# Altium schematic symbol library SSTU V3.0.SCHLIB: 33 symbols
Pins are listed as number, name and electrical type; pins without a type are passive.

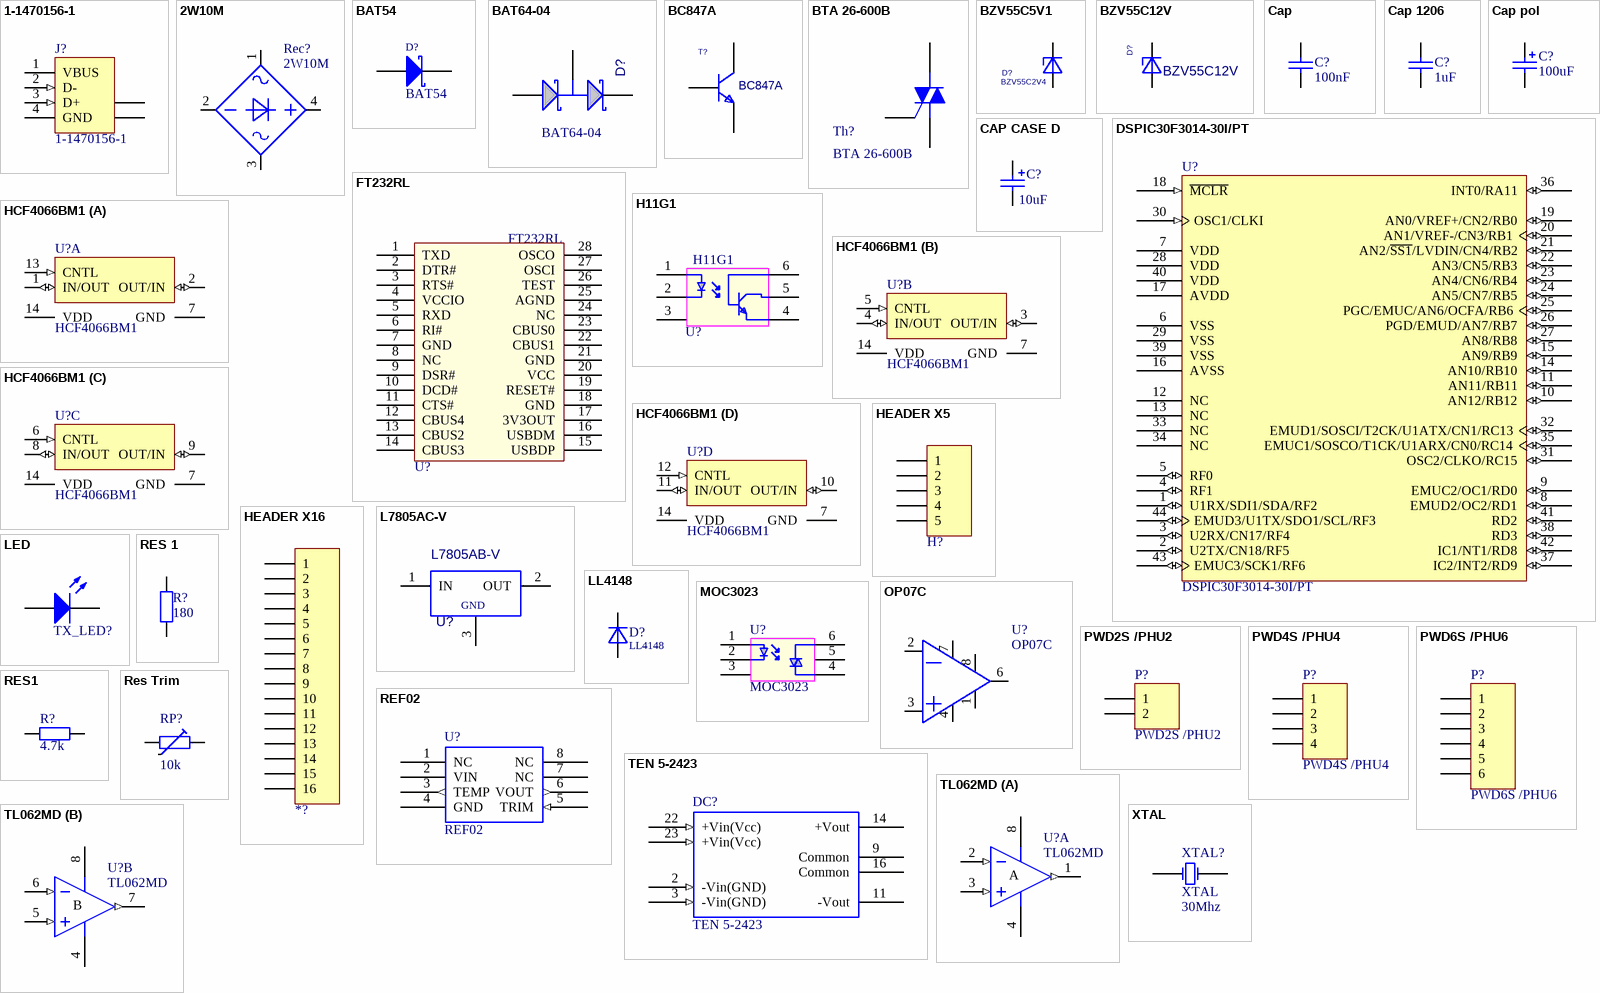
[diagram p0: symbols 1-1470156-1 to XTAL]

## 1-1470156-1
designator J?
USB 1.1, Right Angle, Thru-Hole, B Type, Receptacle, 4 Position, White; ContactMaterial: Phosphor Bronze; ContactPlating: Gold over Nickel; TerminationLength: 3.00mm [0.118in.]; PCB_Layout: Complies with manufacturer's recommendation.; DrillSize: Corresponds to nominal value.; PanelGround: Without; Published: 15-Jul-2004; DatasheetDocument: 02-Jun-2001; PackageDocument: 02-Jun-2001; PackageReference: 1-1470156; Publisher: Altium Limited; HousingMaterial: Glass-Filled Thermoplastic; ComponentLink1Description: Manufacturer Link; ComponentLink1URL: http://www.tycoelectronics.com/; ComponentLink2Description: Packaging Specification; ComponentLink2URL: http://ecommas.tycoelectronics.com/commerce/DocumentDelivery/DDEController?Action=showdoc&DocId=Customer+Drawing%7F1470156%7FO%7Ftif%7FEnglish%7FC_1470156_O.tif
footprint USB2.5-2H4D (Connector; USB1.1, Type B, Thru-Hole; 4 Position; Right Angle)
signal-integrity model USB1.1
pins: 1 VBUS (power) "Power", 2 D- (in) "-DATA", 3 D+ (in) "+DATA", 4 GND (power) "Ground", 5 SHLD "Shield", 6 SHLD "Shield"

## 2W10M
designator Rec?
Description: Rectifier; Value: 2W10M
footprint WOB_2WXX[X]M
pins: 1 AC1, 2 -, 3 AC2, 4 +

## BAT54
designator D?
Value: BAT54
footprint SOT23 (SOT-23; 3 Leads; Body 3.0 x 2.6 mm, inc. leads (LxW max))
pins: 1 A, 3 K

## BAT64-04
designator D?
Silicon Schottky Diodes; Manufacturer: INF; ComponentLink1DescBC: Manufacturer Link; Group: Discrete; Subgroup: Diode; Published: 21-Mar-2003; DatasheetDocument: Oct-1999; PackageDocument: Sep-2001; PackageReference: SOT-23; Publisher: Altium Limited; ComponentLink1URL: http://www.infineon.com/; Value: BAT64-04
footprint SOT23_HIS_Primary
footprint SOT23_HIS_SOT23B
pins: 1 A, 2 K, 3 C

## BC847A
designator T?
NPN General Purpose Amplifier; OriginalName: BC847ALT1; ComponentField7: Published 29-Sep-2000; Group: Discrete; Subgroup: Transistor; Subgroup1: NPN General Purpose; Package: SOT23; Mounting: SMD; Value: BC847A
footprint SOT23_HIS_Primary
pins: 1 B, 2 E, 3 C

## BTA 26-600B
designator Th?
Value: BTA 26-600B
footprint TO247
pins: 1, 2, 3

## BZV55C5V1
designator D?  value BZV55C2V4  (hidden comment: BZV55C5V1)
Voltage regulator diode; Manufacturer: Any; Group: Discrete; Subgroup1: Zener; Subgroup: Diode; Package: SOD80C; Mounting: SMD
footprint D_MINIMELF_BZV55C5V1(Primary)
pins: A, K

## BZV55C12V
designator D?
Value: BZV55C12V
footprint D_MINIMELF_BZV55C12V(Primary)
pins: A, K

## Cap
designator C?  value 100nF  (hidden comment: Cap)
footprint 3216[1206] (Chip Resistor; Body 3.2 x 1.6 mm (LxW typ))
pins: 1, 2

## Cap 1206
designator C?  value 1uF  (hidden comment: Cap 1206)
footprint 3216[1206] (Chip Resistor; Body 3.2 x 1.6 mm (LxW typ))
pins: 1, 2

## CAP CASE D
designator C?  value 10uF  (hidden comment: CAP CASE D)
footprint 3216[1206]
pins: 1, 2

## Cap pol
designator C?, comment value 100uF  (hidden comment: Cap)
footprint CAPPR5-12.5x20 (Capacitor, Electrolytic, Radial; Body 12.5 x 20 mm (Dia.xH typ); Pin Spacing 5 mm (typ))
footprint CAPPR7.5-18x35.5 (Capacitor, Electrolytic, Radial; Body 18 x 35.5 mm (Dia.xH typ); Pin Spacing 7.5 mm (typ))
footprint CAPPR3.5-8x12 (Capacitor, Electrolytic, Radial; Body 8 x 12 mm (Dia.xH typ); Pin Spacing 3.5 mm (typ))
footprint CAPPR2.5-6.3x11 (Capacitor, Electrolytic, Radial; Body 6.3 x 11 mm (Dia.xH typ); Pin Spacing 2.5 mm (typ))
pins: 1, 2

## DSPIC30F3014-30I/PT
designator U?
High-Performance 16-bit Digital Signal Controller, 24 KB Flash, 2 KB SRAM, 1 KB EEPROM, 44-Pin TQFP, Industrial Temperature; Published: 29-Jan-2009; DatasheetVersion: revF, Apr-2008; PackageVersion: revAW, Oct-2008; PackageReference: TQFP-PT44; Publisher: Altium Limited; PackageDescription: 44-Lead Plastic Thin Quad Flatpack (PT) - 10x10x1mm Body, 2.00mm [TQFP]; Code_JEDEC: MS-026; ComponentLink1Description: Manufacturer Link; ComponentLink1URL: http://www.microchip.com; ComponentLink2Description: Datasheet; ComponentLink2URL: http://ww1.microchip.com/downloads/en/DeviceDoc/70138F.pdf; ComponentLink3Description: Packaging Specification; ComponentLink3URL: http://ww1.microchip.com/downloads/en/PackagingSpec/00049AW.pdf
footprint TQFP-PT44_N (Thin QFP, 44-Leads, Body 10x10mm, Pitch 0.8mm, IPC Medium Density)
footprint TQFP-PT44_L (Thin QFP, 44-Leads, Body 10x10mm, Pitch 0.8mm, IPC High Density)
footprint TQFP-PT44_M (Thin QFP, 44-Leads, Body 10x10mm, Pitch 0.8mm, IPC Low Density)
pins: 1 U1RX/SDI1/SDA/RF2 (io), 2 U2TX/CN18/RF5 (io), 3 U2RX/CN17/RF4 (io), 4 RF1 (io), 5 RF0 (io), 6 VSS (power), 7 VDD (power), 8 EMUD2/OC2/RD1 (io), 9 EMUC2/OC1/RD0 (io), 10 AN12/RB12 (io), 11 AN11/RB11 (io), 12 NC, 13 NC, 14 AN10/RB10 (io), 15 AN9/RB9 (io), 16 AVSS (power), 17 AVDD (power), 18 ~{MCLR} (in), 19 AN0/VREF+/CN2/RB0 (io), 20 AN1/VREF-/CN3/RB1 (io), 21 AN2/~{SS1}/LVDIN/CN4/RB2 (io), 22 AN3/CN5/RB3 (io), 23 AN4/CN6/RB4 (io), 24 AN5/CN7/RB5 (io), 25 PGC/EMUC/AN6/OCFA/RB6 (io), 26 PGD/EMUD/AN7/RB7 (io), 27 AN8/RB8 (io), 28 VDD (power), 29 VSS (power), 30 OSC1/CLKI (in), 31 OSC2/CLKO/RC15 (io), 32 EMUD1/SOSCI/T2CK/U1ATX/CN1/RC13 (io), 33 NC, 34 NC, 35 EMUC1/SOSCO/T1CK/U1ARX/CN0/RC14 (io), 36 INT0/RA11 (io), 37 IC2/INT2/RD9 (io), 38 RD3 (io), 39 VSS (power), 40 VDD (power), 41 RD2 (io), 42 IC1/NT1/RD8 (io), 43 EMUC3/SCK1/RF6 (io), 44 EMUD3/U1TX/SDO1/SCL/RF3 (io)

## FT232RL
designator U?
Value: FT232RL
footprint SSOP28
pins: 1 TXD, 2 DTR#, 3 RTS#, 4 VCCIO, 5 RXD, 6 RI#, 7 GND, 8 NC, 9 DSR#, 10 DCD#, 11 CTS#, 12 CBUS4, 13 CBUS2, 14 CBUS3, 15 USBDP, 16 USBDM, 17 3V3OUT, 18 GND, 19 RESET#, 20 VCC, 21 GND, 22 CBUS1, 23 CBUS0, 24 NC, 25 AGND, 26 TEST, 27 OSCI, 28 OSCO

## H11G1
designator U?
Value: H11G1
footprint DIP-6 (DIP; 6 Leads; Row Spacing 7.62 mm; Pitch 2.54 mm)
pins: 1, 2, 3, 4, 5, 6

## HCF4066BM1
designator U?
Quad Bilateral Switch For Transmission or Multiplexing of Analog or Digital Signals; Published: 8-Jun-2000; LatestRevisionDate: 13-Apr-2006; LatestRevisionNote: IPC-7351 Footprint Added.; DatasheetVersion: Jun-1989; PackageVersion: Sep-1998; PackageReference: SO14; Publisher: Altium Limited; PackageDescription: 14-Pin Small Outline Integrated Circuit 1.27 mm Pitch; Code_IPC: SOIC127P600-14; ComponentLink1Description: Manufacturer Link; ComponentLink1URL: http://www.st.com/; ComponentLink2Description: Datasheet; ComponentLink2URL: http://www.st.com/stonline/products/literature/ds/2057/hcf4066.pdf
footprint SO14_N (SOIC, 14-Leads, Body 8.7x3.9mm, Pitch 1.27mm, IPC Medium Density)
footprint SO14_L (SOIC, 14-Leads, Body 8.7x3.9mm, Pitch 1.27mm, IPC High Density)
footprint SO14_M (SOIC, 14-Leads, Body 8.7x3.9mm, Pitch 1.27mm, IPC Low Density)
3D model SO14 (14-Pin Small Outline Integrated Circuit 1.27 mm Pitch)
pins on every part: 7 GND (power) hidden to GND, 14 VDD (power) hidden to VDD
part A pins: 1 IN/OUT (io), 2 OUT/IN (io), 13 CNTL (in)
part B pins: 3 OUT/IN (io), 4 IN/OUT (io), 5 CNTL (in)
part C pins: 6 CNTL (in), 8 IN/OUT (io), 9 OUT/IN (io)
part D pins: 10 OUT/IN (io), 11 IN/OUT (io), 12 CNTL (in)

## HEADER X5
designator H?  (value not drawn)
Value: HEADER X5
footprint SIP5
pins: 1, 2, 3, 4, 5

## HEADER X16
designator *?  (value not drawn)
Value: HEADER X16
footprint HDR1X16
pins: 1, 2, 3, 4, 5, 6, 7, 8, 9, 10, 11, 12, 13, 14, 15, 16

## L7805AC-V
designator U?  value L7805AB-V  (hidden comment: L7805AC-V)
Precision 1A Regulator; ComponentField6: Tab is connected to pin 3 (GND).; ComponentField7: Published 24-Aug-2001; OriginalName: L7805AB-V
footprint SFM-T3/E10.4V_L7805AC-V(Primary)
pins: 1 IN (power), 2 OUT (power), 3 GND (power)

## LED
designator TX_LED?  (value not drawn)
Value: TBD
footprint LED_1206
pins: A, K

## LL4148
designator D?
Value: LL4148
footprint D_MINIMELF_LL4148
pins: A, K

## MOC3023
designator U?
Value: MOC3023
footprint DIP-6
pins: 1, 2, 3, 4, 5, 6

## OP07C
designator U?
Value: OP07C
footprint SO8
pins: 1, 2, 3, 4, 6, 7, 8

## PWD2S /PHU2
designator P?
Value: PWD2S /PHU2
footprint PWD2S /PHU2
pins: 1, 2

## PWD4S /PHU4
designator P?
Value: PWD4S /PHU4
footprint PWD4S /PHU4 - duplicate
pins: 1, 2, 3, 4

## PWD6S /PHU6
designator P?
Value: PWD6S /PHU6
footprint PWD6S/ PHU6
pins: 1, 2, 3, 4, 5, 6

## REF02
designator U?
Value: REF02
footprint SO8
pins: 1 NC, 2 VIN (power), 3 TEMP (out), 4 GND (power), 5 TRIM (in), 6 VOUT (out), 7 NC, 8 NC

## RES1
designator R?, comment value 4.7k  (hidden comment: Resistor)
footprint 3216[1206] (Chip Resistor; Body 3.2 x 1.6 mm (LxW typ))
pins: 1, 2

## RES 1
designator R?, comment value 180  (hidden comment: RES)
footprint 3216[1206] (Chip Resistor; Body 3.2 x 1.6 mm (LxW typ))
pins: 1, 2

## Res Trim
designator RP?, comment value 10k  (hidden comment: Trimmer)
footprint BOURNS3296W
pins: 1, 2, 3

## TEN 5-2423
designator DC?
Value: TEN 5-2423
footprint DIP24_TRACO
pins: 2 -Vin(GND) (in), 3 -Vin(GND) (in), 9 Common, 11 -Vout (power), 14 +Vout (power), 16 Common (power), 22 +Vin(Vcc) (in), 23 +Vin(Vcc) (in)

## TL062MD
designator U?
Low-Power J-FET Dual Bipolar Operational Amplifier; Published: 24-Aug-2001; LatestRevisionDate: 13-Apr-2006; LatestRevisionNote: IPC-7351 Footprint Added.; DatasheetVersion: Oct-1997; PackageVersion: Dec-2002; PackageReference: SO8; Publisher: Altium Limited; PackageDescription: 8-Pin Small Outline Integrated Circuit 1.27 mm Pitch; Code_JEDEC: MS-012-AA; Code_IPC: SOIC127P600-8; ComponentLink1Description: Manufacturer Link; ComponentLink1URL: http://www.st.com/; ComponentLink2Description: Datasheet; ComponentLink2URL: http://www.st.com/stonline/products/literature/ds/2294/tl062.pdf
footprint SO8_N (SOIC, 8-Leads, Body 4.9x3.9mm, Pitch 1.27mm, IPC Medium Density)
footprint SO8_L (SOIC, 8-Leads, Body 4.9x3.9mm, Pitch 1.27mm, IPC High Density)
footprint SO8_M (SOIC, 8-Leads, Body 4.9x3.9mm, Pitch 1.27mm, IPC Low Density)
3D model SO8 (8-Pin Small Outline Integrated Circuit 1.27 mm Pitch)
simulation model TL062 (SUBCKT)
pins on every part: 4 V- (power), 8 V+ (power)
part A pins: 1 OUT (out), 2 IN- (in), 3 IN+ (in)
part B pins: 5 IN+ (in), 6 IN- (in), 7 OUT (out)
part A text: A
part B text: B

## XTAL
designator XTAL?  value 30Mhz
footprint XTAL (XTAL SMD)
footprint XTAL (XTAL SMD)
pins: 1 OSC1, 2 OSC2